# Altium footprint library D2PAK.PcbLib: 1 footprints
Each footprint in its own frame and in the unit in brackets; x right, y up, seen from the top. Pads: shape width x height; smd on the part's side, far side on the other; paste and mask are expansions set on the pad; w line width, h text height; cw(c..) or ccw(c..) is an arc to the next point about the centre after c.
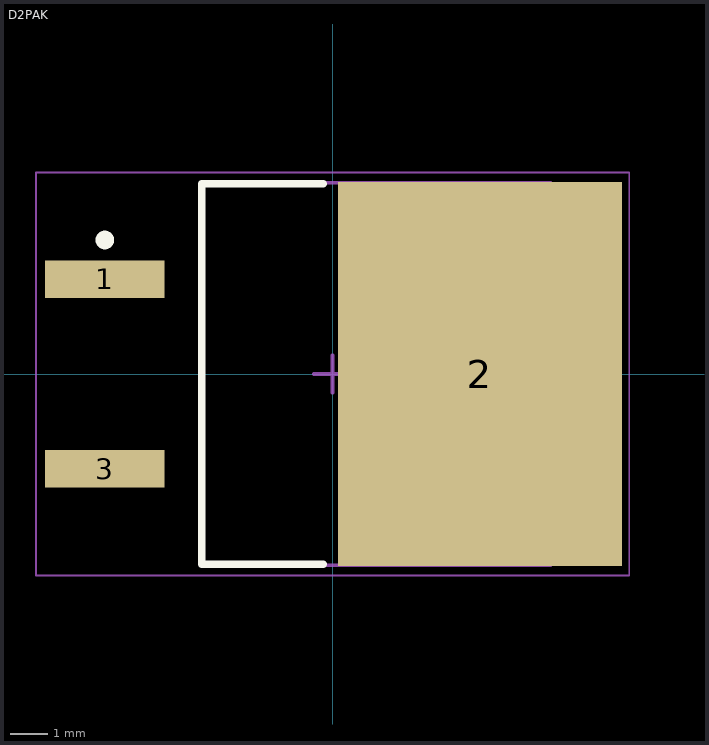
[diagram p0: the footprint, top view; thin cyan lines are the x and y axes]

## D2PAK [mm]
height 4.58
pads (3):
  rect 3.2x1 smd: 1(-6.1,2.54) 3(-6.1,-2.54)
  rect 7.6x10.3 smd: 2(3.95,0)
Top Overlay:
  circle w0.25: c-6.1,3.59 r0.125
  lines w0.2: -0.25,-5.1 -3.5,-5.1 -3.5,5.1 -0.25,5.1
Mechanical 1:
  lines w0.1: -3.5,-5.125 -3.5,5.125 5.85,5.125 5.85,-5.125 -3.5,-5.125
Mechanical 2:
  lines w0.05: -7.95,-5.4 -7.95,5.4 7.95,5.4 7.95,-5.4 -7.95,-5.4
  lines w0.1: -0.5,0 0.5,0 ; 0,-0.5 0,0.5
3D body "D2PAK.step": height 4.57, standoff 0, extent -6.714,-5.125 7.485,5.125